# Altium schematic symbol library STM32_PCB_Design.SCHLIB: 13 symbols
Pins are listed as number, name and electrical type; pins without a type are passive.

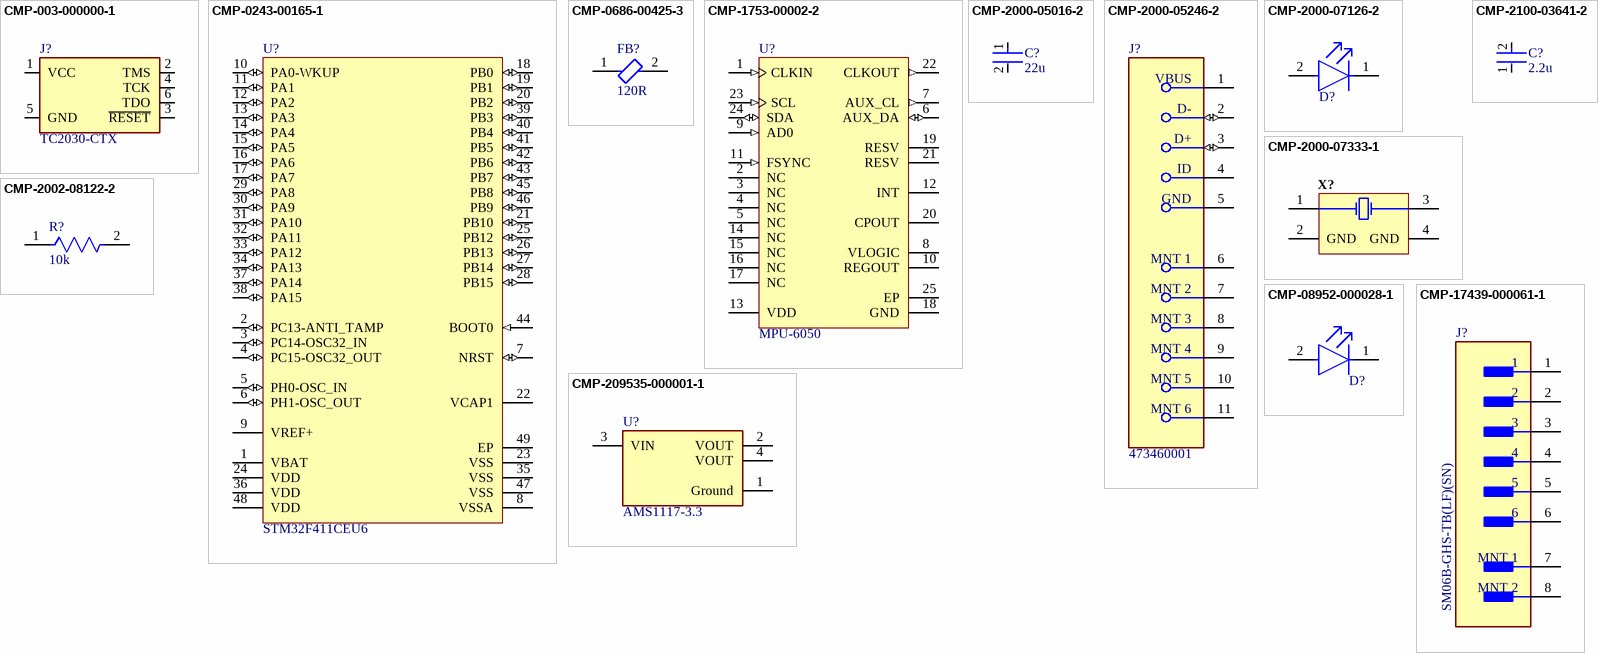
[diagram p0: symbols CMP-003-000000-1 to CMP-209535-000001-1]

## CMP-003-000000-1
designator J?, comment TC2030-CTX
CortexÂ® Plug-Of-Nailsâ„¢ Adapter Cable; MF: Tag-Connect LLC; Price: None; Value: *; Source: SnapEDAsch.SchLib; Availability: Unavailable; SnapEDA_Link: https://www.snapeda.com/parts/TC2030-CTX/Tag-Connect%20LLC/view-part/225831/?ref=snap; Package: None; Component Type: Standard; MP: TC2030-CTX; Design Item ID: TC2030-CTX; Pin Count: 6
footprint TC2030-IDC-NL
pins: 1 VCC (io), 2 TMS (io), 3 ~{RESET} (io), 4 TCK (io), 5 GND (io), 6 TDO (io)

## CMP-0243-00165-1
designator U?, comment STM32F411CEU6
ARM Cortex-M4 32-bit MCU+FPU, 512 KB Flash, 128 KB RAM, 36 I/Os, 48-Pin UFQFPN, -40 to 85 degC, Tray; Operating Frequency(F) (Processor speed) (MHz): 100; FLASH Size (Prog) (kB): 512; Internal RAM Size (kB): 128; I/Os (High Current): 36; Supply Voltage(Vcc) min (V): 1.7; Package Reference: 48-Pin Ultra Thin Fine Pitch Quad Flat No-Lead, 7 x 7 x 0.6 mm Body, 0.5 mm Pitch, Exposed Pad; ComponentLink1Description: Manufacturer URL; ComponentLink1URL: http://www.st.com/; Packing: Tray; Package Description: UFQFPN48; Core: ARM Cortex-M4; ComponentLink2Description: Datasheet; ComponentLink2URL: http://www.st.com/st-web-ui/static/active/en/resource/technical/document/datasheet/DM00115249.pdf; DatasheetVersion: Rev. 6; Mounting Technology: Surface Mount
footprint STM-UFQFPN48_L (QFN, 48-Leads, Body 7.1x7.1mm, Pitch 0.5mm, Thermal Pad 5.6x5.6mm, IPC High Density)
footprint STM-UFQFPN48_M (QFN, 48-Leads, Body 7.1x7.1mm, Pitch 0.5mm, Thermal Pad 5.6x5.6mm, IPC Low Density)
footprint STM-UFQFPN48_N (QFN, 48-Leads, Body 7.1x7.1mm, Pitch 0.5mm, Thermal Pad 5.6x5.6mm, IPC Medium Density)
pins: 1 VBAT (power), 2 PC13-ANTI_TAMP (io) "PC13-ANTI_TAMP/RTC_AMP1,RTC_OUT,RTC_TS", 3 PC14-OSC32_IN (io) "PC14-OSC32_IN/OSC32_IN", 4 PC15-OSC32_OUT (io) "PC15-OSC32_OUT/OSC32_OUT", 5 PH0-OSC_IN (io) "PH0-OSC_IN/OSC_IN", 6 PH1-OSC_OUT (io) "PH1-OSC_OUT/OSC_OUT", 7 NRST (io) "NRST/EVENTOUT", 8 VSSA (power), 9 VREF+ (power), 10 PA0-WKUP (io) "PA0-WKUP/TIM2_CH1/TIM2_ET,TIM5_CH1,USART2_CTS,EVENTOUT/ADC1_0,WKUP1", 11 PA1 (io) "PA1/TIM2_CH2,TIM5_CH2,SPI4_MOSI/I2S4_SD,USART2_RTS,EVENTOUT/ADC1_1", 12 PA2 (io) "PA2/TIM2_CH3,TIM5_CH3,TIM9_CH1,I2S2_CKIN,USART2_TX,EVENTOUT/ADC1_2", 13 PA3 (io) "PA3/TIM2_CH4,TIM5_CH4,TIM9_CH2,I2S2_MCK,USART2_RX,EVENTOUT/ADC1_3", 14 PA4 (io) "PA4/SPI1_NSS/I2S1_WS,SPI3_NSS/I2S3_WS,USART2_CK,EVENTOUT/ADC1_4", 15 PA5 (io) "PA5/TIM2_CH1/TIM2_ET,SPI1_SCK/I2S1_CK,EVENTOUT/ADC1_5", 16 PA6 (io) "PA6/TIM1_BKIN,TIM3_CH1,SPI1_MISO,I2S2_MCK,SDIO_CMD,EVENTOUT/ADC1_6", 17 PA7 (io) "PA7/TIM1_CH1N,TIM3_CH2,SPI1_MOSI/I2S1_SD,EVENTOUT/ADC1_7", 18 PB0 (io) "PB0/TIM1_CH2N,TIM3_CH3,SPI5_SCK/I2S5_CK,EVENTOUT/ADC1_8", 19 PB1 (io) "PB1/TIM1_CH3N,TIM3_CH4,SPI5_NSS/I2S5_WS,EVENTOUT/ADC1_9", 20 PB2 (io) "PB2/EVENTOUT/BOOT1", 21 PB10 (io) "PB10/TIM2_CH3,I2C2_SCL,SPI2_SCK/I2S2_CK,I2S3_MCK,SDIO_D7,EVENTOUT", 22 VCAP1, 23 VSS (power), 24 VDD (power), 25 PB12 (io) "PB12/TIM1_BKIN,I2C2_SMBA,SPI2_NSS/I2S2_WS,SPI4_NSS/I2S4_WS,SPI3_SCK/I2S3_CK,EVENTOUT", 26 PB13 (io) "PB13/TIM1_CH1N,SPI2_SCK/I2S2_CK,SPI4_SCK/I2S4_CK,EVENTOUT", 27 PB14 (io) "PB14/TIM1_CH2N,SPI2_MISO,I2S2EXT_SD,SDIO_D6,EVENTOUT", 28 PB15 (io) "PB15/RTC_50HZ,TIM1_CH3N,SPI2_MOSI/I2S2_SD,SDIO_CK,EVENTOUT/RTC_REFIN", 29 PA8 (io) "PA8/MCO_1,TIM1_CH1,I2C3_SCL,USART1_CK,USB_FS_SOF,SDIO_D1,EVENTOUT", 30 PA9 (io) "PA9/TIM1_CH2,I2C3_SMBA,USART1_TX,USB_FS_VBUS,SDIO_D2,EVENTOUT/OTG_FS_VBUS", 31 PA10 (io) "PA10/TIM1_CH3,SPI5_MOSI/I2S5_SD,USART1_RX,USB_FS_ID,EVENTOUT", 32 PA11 (io) "PA11/TIM1_CH4,SPI4_MISO,USART1_CTS,USART6_TX,USB_FS_DM,EVENTOUT", 33 PA12 (io) "PA12/TIM1_ETR,SPI5_MISO,USART1_RTS,USART6_RX,USB_FS_DP,EVENTOUT", 34 PA13 (io) "PA13/JTMS-SWDIO,EVENTOUT", 35 VSS (power), 36 VDD (power), 37 PA14 (io) "PA14/JTCK-SWCLK,EVENTOUT", 38 PA15 (io) "PA15/JTDI,TIM2_CH1/TIM2_ETR,SPI1_NSS/I2S1_WS,SPI3_NSS/I2S3_WS,USART1_TX,EVENTOUT", 39 PB3 (io) "PB3/JTDO-SWO,TIM2_CH2,SPI1_SCK/I2S1_CK,SPI3_SCK/I2S3_CK,USART1_RX,I2C2_SDA,EVENTOUT", 40 PB4 (io) "PB4/JTRST,TIM3_CH1,SPI1_MISO,SPI3_MISO,I2S3EXT_SD,I2C3_SDA,SDIO_D0,EVENTOUT", 41 PB5 (io) "PB5/TIM3_CH2,I2C1_SMBA,SPI1_MOSI/I2S1_SD,SPI3_MOSI/I2S3_SD,SDIO_D3,EVENTOUT", 42 PB6 (io) "PB6/TIM4_CH1,I2C1_SCL,USART1_TX,EVENTOUT", 43 PB7 (io) "PB7/TIM4_CH2,I2C1_SDA,USART1_RX,SDIO_D0,EVENTOUT", 44 BOOT0 (in) "BOOT0/VPP", 45 PB8 (io) "PB8/TIM4_CH3,TIM10_CH1,I2C1_SCL,SPI5_MOSI/I2S5_SD,I2C3_SDA,SDIO_D4,EVENTOUT", 46 PB9 (io) "PB9/TIM4_CH4,TIM11_CH1,I2C1_SDA,SPI2_NSS/I2S2_WS,I2C2_SDA,SDIO_D5,EVENTOUT", 47 VSS (power), 48 VDD (power), 49 EP (power)

## CMP-0686-00425-3
designator FB?, comment 120R
Chip Ferrite Bead, 0603, 5Ω @ 100MHz, 0.05Ω, 25%, 800mA; Shielding: Unshielded; Impedance: 5R; Max Current Rating: 700mA; DC Resistance (DCR): 50mR; Number of Lines: 1; Number of Pins: 2; Case Code (Metric): 1608; Radiation Hardening: No; Case Code (Imperial): 0603; Width: 0.8mm; Case/Package: 0603; Min Operating Temperature: -55°C; Test Frequency: 100MHz; Material: Ferrite; Package Quantity: 1; DC Current: 700mA; Lead Free: Lead Free; Number of Circuits: 1; Length: 1.6mm; Current Rating: 700mA; Military Standard: Not; Packaging: Tape and Reel; Max DC Current: 700mA; Height: 0.8mm; Depth: 0.8mm; Core Material: Ferrite; Tolerance: 25%; REACH SVHC: No SVHC; Termination: SMD/SMT; Max Operating Temperature: 125°C
footprint FP-BLM18-0_15-t0_8-IPC_C
footprint FP-BLM18-0_15-t0_8-IPC_B
footprint FP-BLM18-0_15-t0_8-IPC_A
footprint FP-BLM18-0_15-t0_8-MFG
pins: 1, 2

## CMP-1753-00002-2
designator U?, comment MPU-6050
3-Axis Gyroscope, Accelerometer and a Digital Motion Processor(TM) (DMP), 2.375 to 3.46 V, -40 to 85 degC, 24-Pin QFN, RoHS, Tape and Reel; Manufacturer: InvenSense; Featured Product: MPU-60506-Axis,IntegratedI²CSolution; Other Names: 1428-1007-2 / MPU6050; Sensor Type: MotionTracking; Online Catalog: MPU-6000™Series; Unit PriceUSD: Digital; Datasheet Version: Rev. 3.3, 05/2012; Category: Sensors,Transducers; Datasheet URL: http://datasheet.octopart.com/MPU-6050-InvenSense-datasheet-14421344.pdf; Family: Multifunction; Standard Package: 5,000; Manufacturer URL: http://www.invensense.com/; Output Type: Digital; Dynamic Catalog: MPU-6000™Series
footprint IS-QFN-24_V (QFN, 24-Leads, Body 4x4mm, Pitch 0.5mm, Thermal Pad 2.7x2.6mm)
pins: 1 CLKIN (in) "Optional external reference clock input. Connect to GND if unused.", 2 NC "Not internally connected. May be used for PCB trace routing", 3 NC "Not internally connected. May be used for PCB trace routing", 4 NC "Not internally connected. May be used for PCB trace routing", 5 NC "Not internally connected. May be used for PCB trace routing", 6 AUX_DA (io) "I2C master serial data, for connecting to external sensors", 7 AUX_CL (out) "I2C Master serial clock, for connecting to external sensors", 8 VLOGIC (power) "Digital I/O supply voltage", 9 AD0 (in) "I2C Slave Address LSB (AD0)", 10 REGOUT "Regulator filter capacitor connection", 11 FSYNC (in) "Frame synchronization digital input. Connect to GND if unused.", 12 INT (oc) "Interrupt digital output (totem pole or open-drain)", 13 VDD (power) "Power supply voltage and Digital I/O supply voltage", 14 NC "Not internally connected. May be used for PCB trace routing", 15 NC "Not internally connected. May be used for PCB trace routing", 16 NC "Not internally connected. May be used for PCB trace routing", 17 NC "Not internally connected. May be used for PCB trace routing", 18 GND (power) "Power supply ground", 19 RESV "Reserved. Do not connect", 20 CPOUT "Charge pump capacitor connection", 21 RESV "Reserved. Do not connect", 22 CLKOUT (out) "System clock output", 23 SCL (in) "System clock output  I2C serial clock (SCL)", 24 SDA (io) "I2C serial data (SDA)", 25 EP (power) "Exposed Pad"

## CMP-2000-05016-2
designator C?, comment 22u
General Purpose Ceramic Capacitor, 0805, 100nF, 10%, X7R, 0.15, 50V; Dissipation Factor: 2.5%; Insulation Resistance: 100GR; Voltage Rating (DC): 50V; Package Quantity: 4000; Tolerance: 10%; Voltage Rating: 50V; Dielectric: X7R; Case/Package: 0805; Lead Free: Lead Free; Dielectric Material: Ceramic; Thickness: 0.037inch; Weight: 0.001411oz; Max Operating Temperature: 125°C; REACH SVHC: No SVHC; Mount: Surface Mount; RoHS Compliant: Yes; Depth: 1.25mm; Height: 0.5mm; Case Code (Metric): 2012; Length: 2mm; Termination: Standard; Case Code (Imperial): 0805; Number of Pins: 2; Voltage: 50V; Radiation Hardening: No; Min Operating Temperature: -55°C; Capacitance: 100nF; Width: 1.2mm; Series: MLCC X7R; Packaging: Cut Tape
footprint FP-0805-L_2_01_0_2-W_1_25-IPC_C
footprint FP-0805-L_2_01_0_2-W_1_25-IPC_B
footprint FP-0805-L_2_01_0_2-W_1_25-IPC_A
footprint FP-0805-L_2_01_0_2-W_1_25-MFG
pins: 1, 2

## CMP-2000-05246-2
designator J?, comment 473460001
CONN RCPT USB2.0 MICRO B SMD R/A; Manufacturer: Molex; Conn Orientation: Right Angle; Is Female: yes; Shielding: true; Pitch: 0.65mm; Number Of Contacts: 5; Voltage Rating: 30V; Current Rating: 1.8A; Device Class L2: USB Connectors; Digikey Description: CONN RCPT USB2.0 MICRO B SMD R/A; Height: 2.945mm; RoHS: TRUE; ComponentLink2Description: Datasheet; Octopart: https://octopart.com/47346-0001-molex-7164928; Automotive: No; Package: 0; Category: Conn; Device Class L1: Connectors; Usb Standard: USB 2.0; Temperature: -30°C to +85°C; Temperature Range Low: -30°C; Footprint Url: https://www.molex.com/pdm_docs/sd/473460001_sd.pdf; ComponentLink2URL: https://www.molex.com/webdocs/datasheets/pdf/en-us/0473460001_IO_CONNECTORS.pdf; Lead Free: Yes; Manufacturer Part Number: 473460001; Contact Material: Gold,Nickel; Temperature Range High: +85°C; Device Class L3: unset
footprint FP-473460001-MFG
pins: 1 VBUS (power), 2 D- (io), 3 D+ (io), 4 ID, 5 GND (power), 6 MNT 1, 7 MNT 2, 8 MNT 3, 9 MNT 4, 10 MNT 5, 11 MNT 6

## CMP-2000-07126-2
designator D?, comment SML-P11MTT86  (value not drawn)
LED YELLOW/GREEN CLEAR 1006 SMD; Forward Current: 20mA; Lens Color: Colorless; Power Rating: 54mW; Lens Style: Diffused; Wavelength: 569nm; Viewing Angle: 150°; Number of LEDs: 1; Test Current: 1mA; Luminous Intensity: 2.1mcd; Illumination Color: Green; Forward Voltage: 1.9V; REACH SVHC: No SVHC; Mount: Surface Mount; Series: PicoLED™; Case Code (Imperial): 0402; Min Operating Temperature: -40°C; Max Operating Temperature: 85°C; Number of Pins: 2; Package Quantity: 1; Height: 0.25mm; Lens Transparency: Clear; Case Code (Metric): 1005; Packaging: Tape and Reel; Width: 0.6mm; Radiation Hardening: No; Case/Package: 0402; Lead Free: Lead Free; Color: Green; RoHS Compliant: Yes; Length: 1mm; Dominant Wavelength: 569nm
footprint FP-SML-P11MTT86-MFG
pins: 1 C, 2 A

## CMP-2000-07333-1
designator X?, comment TSX-3225 24.0000MF15X-AC3  (value not drawn)
MHz Range Crystal, 24 MHz, -40 to 85 degC, 4-Pin SMD, RoHS, Tape and Reel; Manufacturer: Epson; Brand: EpsonTiming; Frequency Stability: 10PPM; Frequency: 24MHz; ESR: 40Ohms; Load Capacitance: 9pF; Unit Weight: 0.000564oz; Drive Level: 200uW; Datasheet Version: 12/2015; RoHS: True; Operating Temperature Range: -40Cto+85C; Length: 3.2mm; Tolerance: 10PPM; Width: 2.5mm; Mounting Technology: SurfaceMount; Package Description: 4-Pin Surface Mount Device, Body 3.2 x 2.5 mm; Manufacturer URL: https://www.eea.epson.com/; Factory Pack Quantity: 250; Package Reference: TSX-3225; Height: 0.6mm; Mounting Style: SMD/SMT; Termination Style: SMD/SMT; Datasheet URL: https://support.epson.biz/td/api/doc_check.php?dl=brief_FA-238V_en.pdf; Type: Crystal; Series: TSX-3225; Package / Case: 3.2mmx2.5mm; Product Category: Crystals; Packaging: Reel
footprint EPSON-TSX-3225_V (SMD, 4-Leads, Body 3.2x2.5mm)
pins: 1 X1, 2 GND (power), 3 X2, 4 GND (power)

## CMP-2002-08122-2
designator R?, comment 10k
RES Thick Film, 0Ω, 0.063W, 0402; Tolerance: 5%; Max Power Dissipation: 63mW; Voltage Rating: 50V; Temperature Coefficient: 100ppm/°C; Resistance: 0mR; Contact Plating: Tin; Height: 0.35mm; Radiation Hardening: No; Features: Automotive AEC-Q200; Composition: Thick Film; Width: 0.5mm; Weight: 2.3E-05oz; Termination: SMD/SMT; Packaging: Tape and Reel; Mount: Surface Mount; Case Code (Metric): 1005; Military Standard: Not; Min Operating Temperature: -55°C; Number of Terminations: 2; Package Quantity: 1; Case Code (Imperial): 0402; Depth: 0.5mm; Max Operating Temperature: 155°C; Case/Package: 0402; Power Rating: 63mW; Lead Free: Lead Free; Voltage Rating (DC): 50V; Length: 1mm
footprint FP-CRCW0402-e3-IPC_C
footprint FP-CRCW0402-e3-IPC_A
footprint FP-CRCW0402-e3-MFG
footprint FP-CRCW0402-e3-IPC_B
pins: 1, 2

## CMP-2100-03641-2
designator C?, comment 2.2u
CAP CER 0.1UF 16V X7R 0402; Manufacturer Part Number: GRM155R71C104KA88D; Manufacturer: Murata; Standoff Height: 0mm; Tolerance: 10%; Voltage Rating: 16Vdc; Material: Ceramic; Capacitance: 0.10μF; Value: 0.10μF; RoHS: TRUE; Temperature Characteristic: X7R; Octopart: https://octopart.com/grm155r71c104ka88d-murata-196880; Digikey Description: CAP CER 0.1UF 16V X7R 0402; Device Class L3: Ceramic Capacitors; Height: 0.55mm; ComponentLink2Description: Datasheet; Temperature Range Low: -55°C; Ipc Land Pattern Name: CAPC10050X219; ComponentLink2URL: https://search.murata.co.jp/Ceramy/image/img/A01X/G101/ENG/GRM155R71H471KA01-01A.pdf; Device Class L1: Passive Components; Lead Free: yes; Category: Cap; Package: GRM15; Temperature: -55°C to +125°C; Device Class L2: Capacitors; Temperature Range High: +125°C; Mouser Description: 0402 0.1 uF 16V ±10 % Tolerance X7R SMT Multilayer Ceramic Capacitor
footprint FP-GRM15-MFG
footprint FP-GRM15-IPC_C
footprint FP-GRM15-IPC_B
footprint FP-GRM15-IPC_A
pins: 1, 2

## CMP-08952-000028-1
designator D?, comment SML-P11UTT86  (value not drawn)
LED RED CLEAR 1006 SMD; Number of LEDs: 1; Lens Color: Colorless; Viewing Angle: 150°; Dominant Wavelength: 621nm; Luminous Intensity: 5.5mcd; Forward Voltage: 1.8V; Lens Style: Square; Test Current: 1mA; Forward Current: 20mA; Height: 0.25mm; Radiation Hardening: No; Color: Red; Case Code (Metric): 1005; Number of Pins: 2; RoHS Compliant: Yes; Max Operating Temperature: 85°C; Package Quantity: 1; Wavelength: 621nm; Lens Transparency: Clear; Packaging: Tape and Reel; Lead Free: Lead Free; Illumination Color: Red; Case/Package: 0402; Case Code (Imperial): 0402; Mount: Surface Mount; Min Operating Temperature: -40°C; Width: 0.6mm; Length: 1mm; Series: PicoLED™; REACH SVHC: No SVHC
footprint FP-SML-P11UTT86-MFG
pins: 1 C, 2 A

## CMP-17439-000061-1
designator J?, comment SM06B-GHS-TB(LF)(SN)
CONN HEADER SMD R/A 6POS 1.25MM; Number of Contacts: 6; Voltage Rating: 50V; Current Rating: 1A; Connector Type: Outer Shroud Contact; Contact Resistance: 50mR; Orientation: Right Angle; Max Operating Temperature: 85°C; Mount: Surface Mount; Packaging: Tape and Reel; Contact Plating: Tin; Depth: 4.05mm; Max Voltage Rating (AC): 50V; Lead Free: Lead Free; Pitch: 1.25mm; Number of Positions: 6; Max Current Rating: 1A; Termination: Solder; Min Operating Temperature: -25°C; Housing Color: Beige; Fastening Type: Ramp; Length: 10.75mm; Color: Natural; Contact Material: Bronze; Housing Material: Polyamide; Number of Rows: 1
footprint FP-SM06B-GHS-TB_LF_SN-MFG
pins: 1, 2, 3, 4, 5, 6, 7 MNT 1, 8 MNT 2

## CMP-209535-000001-1
designator U?, comment AMS1117-3.3
LDO Voltage Regulators 1A, 3.3V; Manufacturer: Advanced Monolithic Systems; Dropout Voltage: 1.1V; Output Type: Fixed; Nominal Supply Current: 5mA; Max Power Dissipation: 1.2W; Max Supply Voltage: 15V; Number Of Outputs: 1; Standoff Height: 0.64mm; Max Junction Temp: +125°C; Height: 1.8mm; Package: AMS1117; Device Class L2: Power Management ICs; ComponentLink2Description: Datasheet; ComponentLink2URL: http://www.advanced-monolithic.com/pdf/ds1117.pdf; Category: IC; RoHS: TRUE; Automotive: No; Device Class L1: Integrated Circuits (ICs); Output Current: 1A; Device Class L3: Voltage Regulators - Linear; Temperature: -40°C to +125°C; Output Voltage: 3.3V; Manufacturer Part Number: AMS1117-3.3; Temperature Range Low: -40°C; Octopart: https://octopart.com/ams1117-3.3-advanced+monolithic+systems-25899300; Lead Free: Yes; Ipc Land Pattern Name: SOT229P700X180-4; Temperature Range High: +125°C
footprint FP-AMS1117-IPC_C
footprint FP-AMS1117-IPC_B
footprint FP-AMS1117-IPC_A
pins: 1 Ground (power), 2 VOUT, 3 VIN (power), 4 VOUT